# EAGLE library part 69255-001LF (library fci)
Mod. Jack, Vertical Angle, 8 posiotion, 8 contatcs RJ45 Source: http://portal.fciconnect.com/Comergent//fci/drawing/69255.pdf
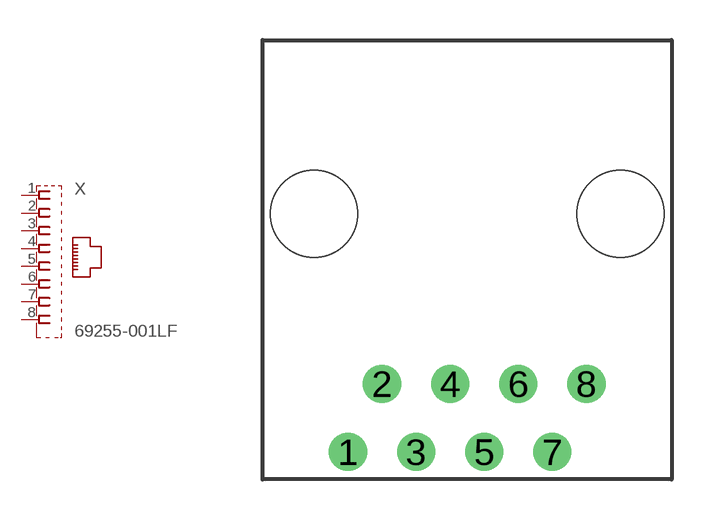
[diagram p1: symbol with the pads of 69255-001LF; footprint 69255-001LF]

Designator prefix X

## 69255-001LF  [69255-001LF]
1  1  pas
2  2  pas
3  3  pas
4  4  pas
5  5  pas
6  6  pas
7  7  pas
8  8  pas

## Footprint 69255-001LF (pad centres in mm)
drill 0.9 pad 1.422: 1 -4.445,-8.89; 2 -3.175,-6.35; 3 -1.905,-8.89; 4 -0.635,-6.35; 5 0.635,-8.89; 6 1.905,-6.35; 7 3.175,-8.89; 8 4.445,-6.35
hole 3.25 at -5.715,0
hole 3.25 at 5.715,0